# Altium footprint library Wurth_Elektronik_Passive_rev16a.PCBLIB: 810 footprints (part 45 of 51)
Each footprint in its own frame and in the unit in brackets; x right, y up, seen from the top. Pads: shape width x height; smd on the part's side, far side on the other; paste and mask are expansions set on the pad; w line width, h text height; cw(c..) or ccw(c..) is an arc to the next point about the centre after c.
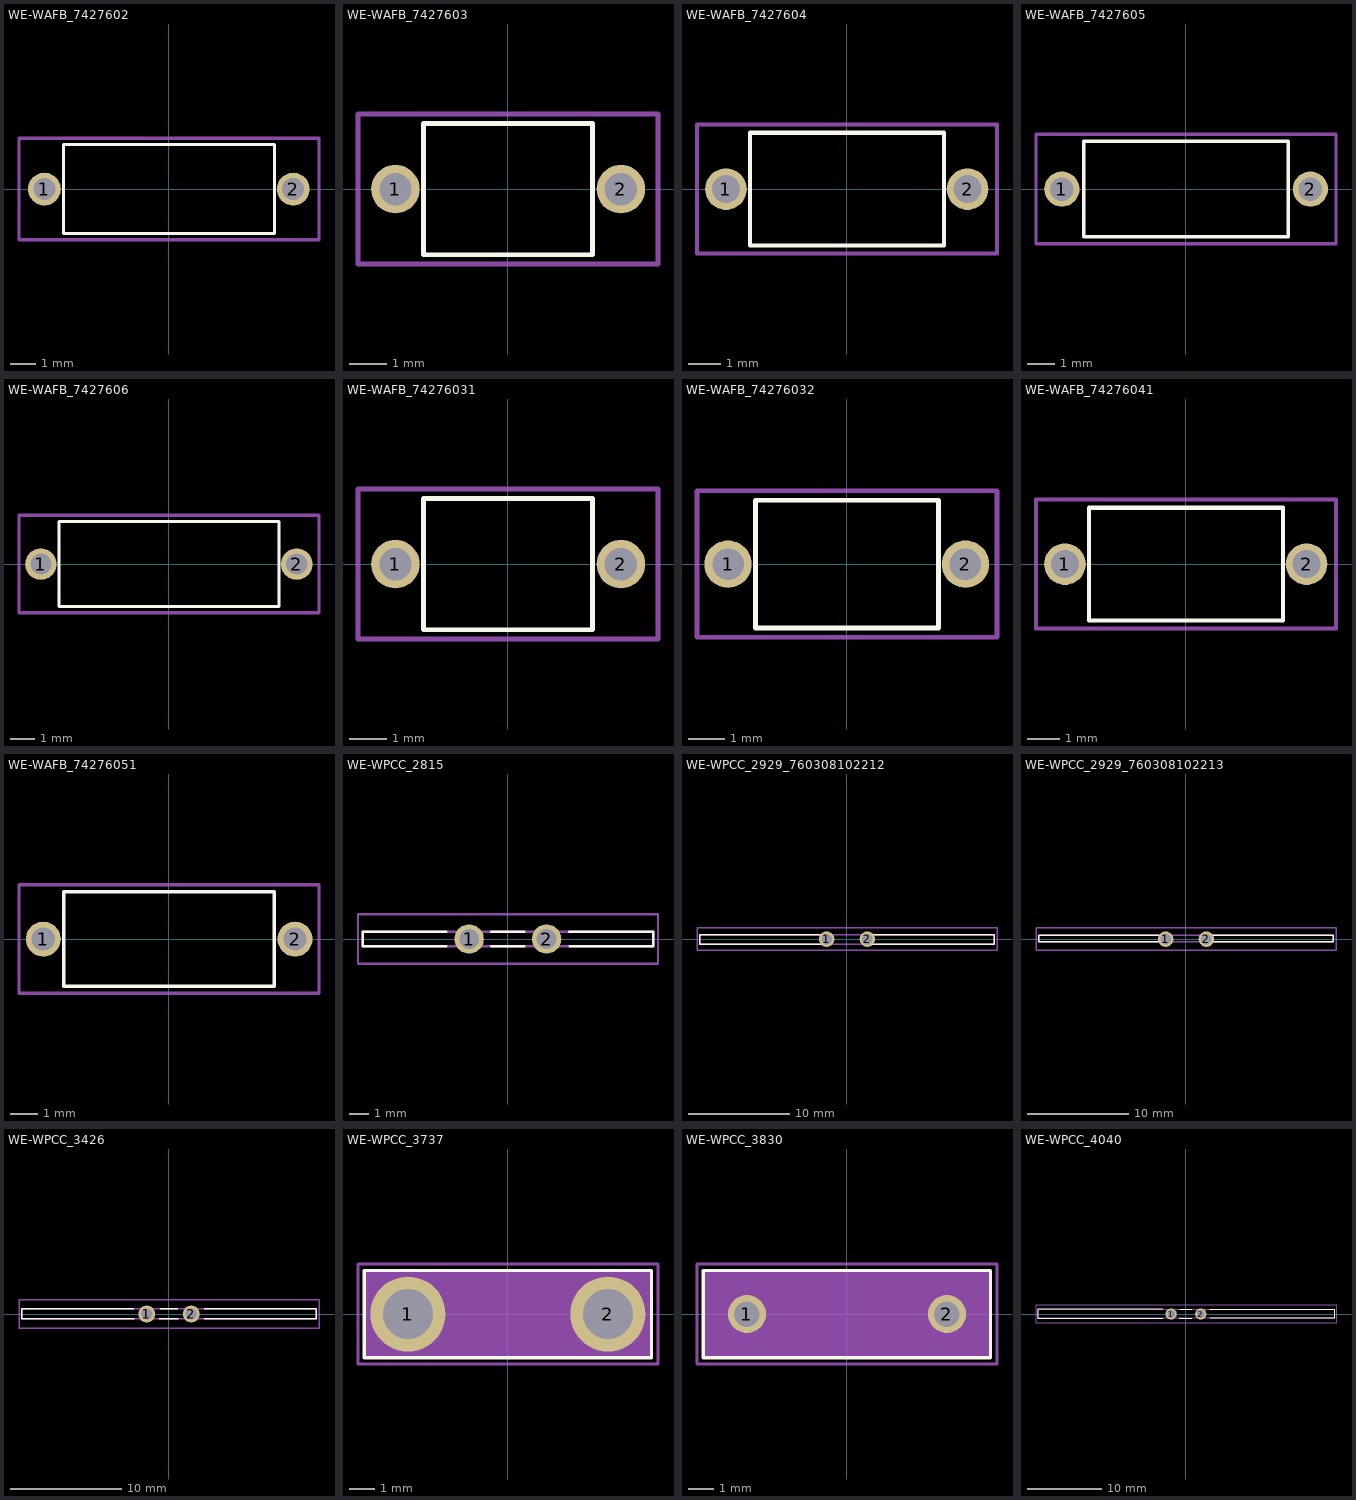
[diagram p44: the footprints below, top view; thin cyan lines are the x and y axes]

## WE-WAFB_7427602 [mil]
pads (2):
  round 51 hole 34: 1(-192.91,0) 2(193,0)
Top Overlay:
  lines w5: -163.39,-68.9 -163.39,69 164,69 164,-68.9 -163.39,-68.9
Mechanical 2:
  text ">NAME" at -150,100 h77.5
Mechanical 4:
  text ">VALUE" at -150,-150 h77.5
Mechanical 27:
  lines w5: -232.28,-78.74 233,-78.74 233,79 -232.28,79 -232.28,-78.74

## WE-WAFB_7427603 [mil]
pads (2):
  round 51 hole 34: 1(-118.11,0) 2(119,0)
Top Overlay:
  lines w5: -88.58,-68.9 -88.58,69 89,69 89,-68.9 -88.58,-68.9
Mechanical 2:
  text ">NAME" at -150,100 h77.5
Mechanical 4:
  text ">VALUE" at -150,-150 h77.5
Mechanical 27:
  lines w5: -157.48,-78.74 158,-78.74 158,79 -157.48,79 -157.48,-78.74

## WE-WAFB_7427604 [mil]
pads (2):
  round 51 hole 34: 1(-147.64,0) 2(148,0)
Top Overlay:
  lines w5: -118.11,-68.9 -118.11,69 119,69 119,-68.9 -118.11,-68.9
Mechanical 2:
  text ">NAME" at -150,100 h77.5
Mechanical 4:
  text ">VALUE" at -150,-150 h77.5
Mechanical 27:
  lines w5: -183.07,-78.74 184,-78.74 184,79 -183.07,79 -183.07,-78.74

## WE-WAFB_7427605 [mil]
pads (2):
  round 51 hole 34: 1(-179.13,0) 2(180,0)
Top Overlay:
  lines w5: -147.64,-68.9 -147.64,69 148,69 148,-68.9 -147.64,-68.9
Mechanical 2:
  text ">NAME" at -150,100 h77.5
Mechanical 4:
  text ">VALUE" at -150,-150 h77.5
Mechanical 27:
  lines w5: -216.54,-78.74 217,-78.74 217,79 -216.54,79 -216.54,-78.74

## WE-WAFB_7427606 [mil]
pads (2):
  round 51 hole 34: 1(-206.69,0) 2(207,0)
Top Overlay:
  lines w5: -177.17,-68.9 -177.17,69 178,69 178,-68.9 -177.17,-68.9
Mechanical 2:
  text ">NAME" at -150,100 h77.5
Mechanical 4:
  text ">VALUE" at -150,-150 h77.5
Mechanical 27:
  lines w5: -242.13,-78.74 243,-78.74 243,79 -242.13,79 -242.13,-78.74

## WE-WAFB_74276031 [mil]
pads (2):
  round 51 hole 34: 1(-118.11,0) 2(119,0)
Top Overlay:
  lines w5: -88.58,-68.9 -88.58,69 89,69 89,-68.9 -88.58,-68.9
Mechanical 2:
  text ">NAME" at -150,100 h77.5
Mechanical 4:
  text ">VALUE" at -150,-150 h77.5
Mechanical 27:
  lines w5: -157.48,-78.74 158,-78.74 158,79 -157.48,79 -157.48,-78.74

## WE-WAFB_74276032 [mil]
pads (2):
  round 51 hole 34: 1(-127.95,0) 2(128,0)
Top Overlay:
  lines w5: -98.43,-68.9 -98.43,69 99,69 99,-68.9 -98.43,-68.9
Mechanical 2:
  text ">NAME" at -150,100 h77.5
Mechanical 4:
  text ">VALUE" at -150,-150 h77.5
Mechanical 27:
  lines w5: -161.42,-78.74 162,-78.74 162,79 -161.42,79 -161.42,-78.74

## WE-WAFB_74276041 [mil]
pads (2):
  round 51 hole 34: 1(-147.64,0) 2(148,0)
Top Overlay:
  lines w5: -118.11,-68.9 -118.11,69 119,69 119,-68.9 -118.11,-68.9
Mechanical 2:
  text ">NAME" at -150,100 h77.5
Mechanical 4:
  text ">VALUE" at -150,-150 h77.5
Mechanical 27:
  lines w5: -183.07,-78.74 184,-78.74 184,79 -183.07,79 -183.07,-78.74

## WE-WAFB_74276051 [mil]
pads (2):
  round 51 hole 34: 1(-183.07,0) 2(184,0)
Top Overlay:
  lines w5: -153.54,-68.9 -153.54,69 154,69 154,-68.9 -153.54,-68.9
Mechanical 2:
  text ">NAME" at -150,100 h77.5
Mechanical 4:
  text ">VALUE" at -150,-150 h77.5
Mechanical 27:
  lines w5: -218.5,-78.74 219,-78.74 219,79 -218.5,79 -218.5,-78.74

## WE-WPCC_2815 [mil]
pads (2):
  round 60 hole 40: 1(-78.74,0) 2(79,0)
Top Overlay:
  lines w5: -125.59,15 -295.28,15 -295.28,-14.33 -125.2,-14.33 ; -33.46,-14.33 34,-14.33 ; -33.46,15 34,15 ; 125,15 296,15 296,-14.33 126,-14.33
Mechanical 2:
  text ">Name" at -50,100 h77.5
Mechanical 4:
  text ">Value" at -50,-150 h77.5
Mechanical 16:
  lines w5: -295.28,-14.33 296,-14.33 296,15 -295.28,15 -295.28,-14.33
Mechanical 27:
  lines w5: -305.12,-50 306,-50 306,50 -305.12,50 -305.12,-50

## WE-WPCC_2929_760308102212 [mil]
pads (2):
  round 60 hole 40: 1(-78.74,0) 2(79,0)
Top Overlay:
  lines w5: -85.04,17 -570.87,17 -570.87,-20.47 -84.65,-20.47 ; 86,-20.47 571,-20.47 571,17 86,17
Mechanical 2:
  text ">Name" at -96.06,73 h77.5
Mechanical 4:
  text ">Value" at -96.06,-110.63 h77.5
Mechanical 16:
  lines w5: -570.87,-20.47 571,-20.47 571,17 -570.87,17 -570.87,-20.47
Mechanical 27:
  lines w5: -580.71,-43.31 581,-43.31 581,44 -580.71,44 -580.71,-43.31

## WE-WPCC_2929_760308102213 [mil]
pads (2):
  round 60 hole 40: 1(-78.74,0) 2(79,0)
Top Overlay:
  lines w5: -85.04,-11.02 -570.87,-11.02 -570.87,15 -85.04,15 ; 86,-11.02 571,-11.02 571,15 86,15
Mechanical 2:
  text ">Name" at -96.06,73 h77.5
Mechanical 4:
  text ">Value" at -96.06,-110.63 h77.5
Mechanical 16:
  lines w5: -570.87,-11.02 571,-11.02 571,15 -570.87,15 -570.87,-11.02
Mechanical 27:
  lines w5: -580.71,-43.31 581,-43.31 581,44 -580.71,44 -580.71,-43.31

## WE-WPCC_3426 [mil]
pads (2):
  round 60 hole 40: 1(-78.74,0) 2(79,0)
Top Overlay:
  lines w5: -125.59,18 -521.65,18 -521.65,-17.52 -123.23,-17.52 ; -34.65,-17.32 33,-17.32 ; -31.1,18 32,18 ; 126,-17.52 522,-17.52 522,18 126,18
Mechanical 2:
  text ">Name" at -50,100 h77.5
Mechanical 4:
  text ">Value" at -50,-150 h77.5
Mechanical 16:
  lines w5: -521.65,-17.52 522,-17.52 522,18 -521.65,18 -521.65,-17.52
Mechanical 27:
  lines w5: -531.5,-50 532,-50 532,50 -531.5,50 -531.5,-50

## WE-WPCC_3737 [mil]
pads (2):
  round 118.5 hole 79: 1(-157.48,0) 2(158,0)
Top Overlay:
  lines w5: -226.38,-68.9 -226.38,69 227,69 227,-68.9 -226.38,-68.9
Mechanical 2:
  text ">NAME" at -150,100 h77.5
Mechanical 4:
  text ">VALUE" at -150,-150 h77.5
Mechanical 10:
  rectangle: -226.38,-68.9 227,69
Mechanical 27:
  lines w5: -236.22,-78.74 -236.22,79 237,79 237,-78.74 -236.22,-78.74

## WE-WPCC_3830 [mil]
pads (2):
  round 60 hole 40: 1(-157.48,0) 2(158,0)
Top Overlay:
  lines w5: -226.38,-68.9 -226.38,69 227,69 227,-68.9 -226.38,-68.9
Mechanical 2:
  text ">NAME" at -150,100 h77.5
Mechanical 4:
  text ">VALUE" at -150,-150 h77.5
Mechanical 10:
  rectangle: -226.38,-68.9 227,69
Mechanical 27:
  lines w5: -236.22,-78.74 -236.22,79 237,79 237,-78.74 -236.22,-78.74

## WE-WPCC_4040 [mil]
pads (2):
  round 60 hole 40: 1(-78.74,0) 2(79,0)
Top Overlay:
  lines w5: -124.02,-23.62 -787.4,-23.62 -787.4,24 -124.02,24 ; -34.25,-23.62 32,-23.62 ; -31.89,24 31,24 ; 126,-23.62 788,-23.62 788,24 127,24
Mechanical 2:
  text ">Name" at -50,100 h77.5
Mechanical 4:
  text ">Value" at -50,-150 h77.5
Mechanical 16:
  lines w5: -787.4,-23.62 788,-23.62 788,24 -787.4,24 -787.4,-23.62
Mechanical 27:
  lines w5: -797.24,-50 798,-50 798,50 -797.24,50 -797.24,-50